# EAGLE library part BAT54BRW (library PCB_KioskMB_r3.3-05)
DIODE SCHOTTKY 0.2A 30V ARR DL 30V SOT363
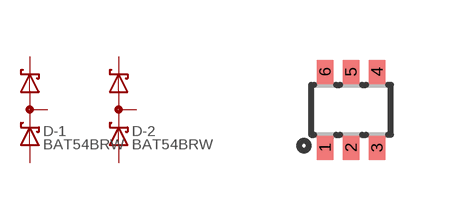
[diagram p9: symbol with the pads of SOT-363; footprint SOT-363]

Designator prefix D; gates -1=D-SCH-DUAL -2=D-SCH-DUAL

## BAT54BRW-7F  [SOT-363]
1  -1:A  pas
2  -2:A  pas
3  -2:AK  pas
4  -2:K  pas
5  -1:K  pas
6  -1:AK  pas

## Footprint SOT-363 (pad centres in mm)
2x1.25mm 0.65mm pitch
smd 0.42 x 0.6: 1 -0.65,-0.95; 2 0,-0.95; 3 0.65,-0.95; 4 0.65,0.95; 5 0,0.95; 6 -0.65,0.95